# Altium footprint library TQFP32.PcbLib: 1 footprints
Each footprint in its own frame and in the unit in brackets; x right, y up, seen from the top. Pads: shape width x height; smd on the part's side, far side on the other; paste and mask are expansions set on the pad; w line width, h text height; cw(c..) or ccw(c..) is an arc to the next point about the centre after c.
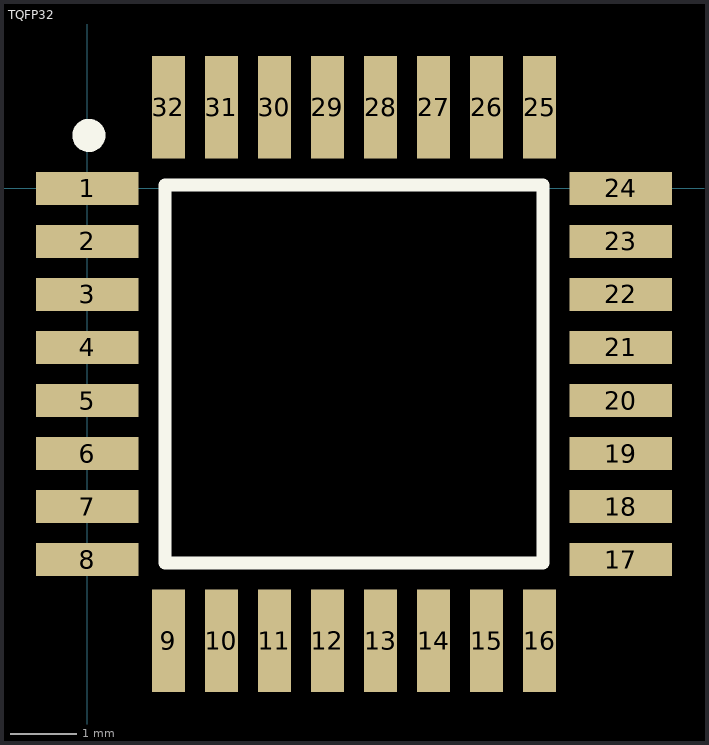
[diagram p0: the footprint, top view; thin cyan lines are the x and y axes]

## TQFP32 [mm]
pads (32):
  rect 1.55x0.5 smd: 1(0,0) 2(0,-0.8) 3(0,-1.6) 4(0,-2.4) 5(0,-3.2) 6(0,-4) 7(0,-4.8) 8(0,-5.6) 17(8.05,-5.6) 18(8.05,-4.8) 19(8.05,-4) 20(8.05,-3.2) 21(8.05,-2.4) 22(8.05,-1.6) 23(8.05,-0.8) 24(8.05,0)
  rect 0.5x1.55 smd: 9(1.225,-6.825) 10(2.025,-6.825) 11(2.825,-6.825) 12(3.625,-6.825) 13(4.425,-6.825) 14(5.225,-6.825) 15(6.025,-6.825) 16(6.825,-6.825) 25(6.825,1.225) 26(6.025,1.225) 27(5.225,1.225) 28(4.425,1.225) 29(3.625,1.225) 30(2.825,1.225) 31(2.025,1.225) 32(1.225,1.225)
Top Overlay:
  circle w0.25: c0.025,0.8 r0.125
  lines w0.2: 1.175,-5.65 1.175,0.05 6.875,0.05 6.875,-5.65 1.175,-5.65